# EAGLE library part LTC3440 (library seb)
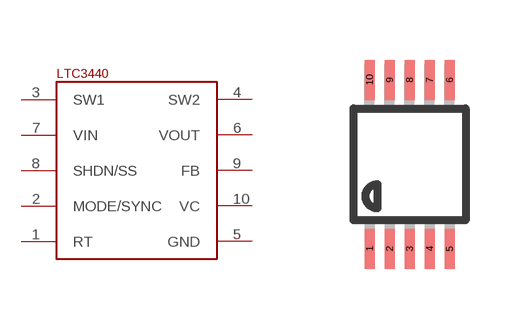
[diagram p1: symbol with the pads of MSOP10; footprint MSOP10]

Designator prefix -

## LTC3440  [MSOP10]
1  RT
2  MODE/SYNC
3  SW1
4  SW2
5  GND
6  VOUT
7  VIN
8  SHDN/SS
9  FB
10  VC

## Footprint MSOP10 (pad centres in mm)
smd 0.25 x 1: 1 -4.81,-0.843; 2 -4.31,-0.843; 3 -3.81,-0.843; 4 -3.31,-0.843; 5 -2.81,-0.843; 6 -2.81,3.383; 7 -3.31,3.383; 8 -3.81,3.383; 9 -4.31,3.383; 10 -4.81,3.383